# EAGLE library part MOSFET_N_X2 (library my_devices)
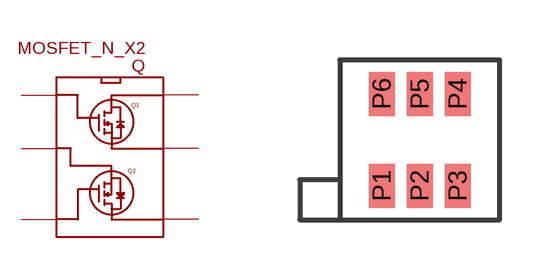
[diagram p26: symbol with the pads of TSOP-6; footprint TSOP-6]

Designator prefix Q

## MOSFET_N_X2  [TSOP-6]
P1  G1
P2  S2
P3  G2
P4  D2
P5  S1
P6  D1

## Footprint TSOP-6 (pad centres in mm)
smd 0.65 x 1.1: P1 -0.95,-1.15; P2 0,-1.15; P3 0.95,-1.15; P4 0.95,1.15; P5 0,1.15; P6 -0.95,1.15